# Altium footprint library PTS636SM25SMTRLFS.PcbLib: 1 footprints
Each footprint in its own frame and in the unit in brackets; x right, y up, seen from the top. Pads: shape width x height; smd on the part's side, far side on the other; paste and mask are expansions set on the pad; w line width, h text height; cw(c..) or ccw(c..) is an arc to the next point about the centre after c.
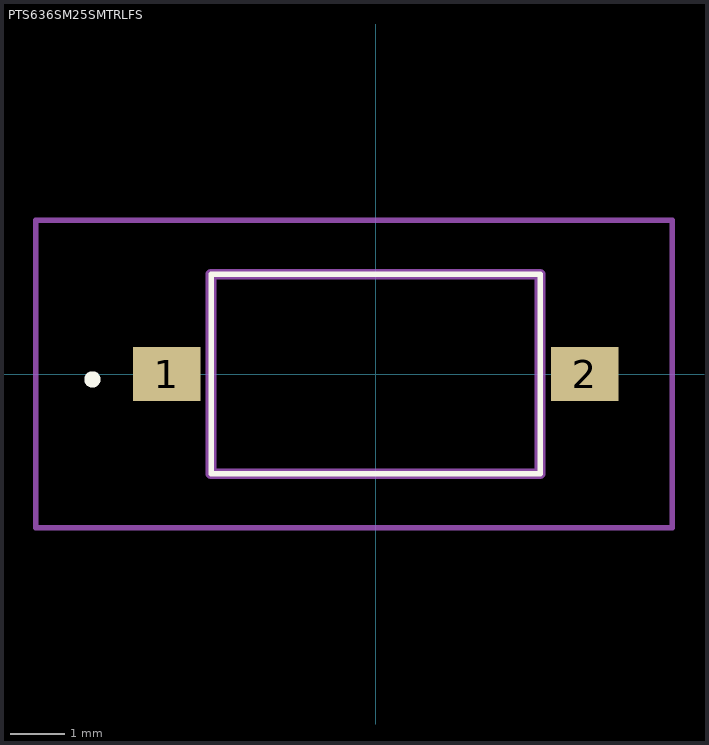
[diagram p0: the footprint, top view; thin cyan lines are the x and y axes]

## PTS636SM25SMTRLFS [mm]
pads (2):
  rect 1.25x1 smd: 1(-3.875,0) 2(3.875,0)
Top Overlay:
  lines w0.1: -3.05,-1.85 3.05,-1.85 3.05,1.85 -3.05,1.85 -3.05,-1.85
  lines w0.2: -5.3,-0.1 -5.3,-0.1 ; -5.3,-0.1 ccw(c-5.25,-0.1) -5.2,-0.1 ; -5.3,-0.1 cw(c-5.25,-0.1) -5.2,-0.1 ; -5.3,-0.1 -5.3,-0.1 ; -5.3,-0.1 ccw(c-5.25,-0.1) -5.2,-0.1 ; -5.2,-0.1 -5.2,-0.1
Mechanical 15:
  lines w0.2: -3.05,-1.85 3.05,-1.85 3.05,1.85 -3.05,1.85 -3.05,-1.85
Mechanical 20:
  lines w0.1: -6.3,-2.85 5.5,-2.85 5.5,2.85 -6.3,2.85 -6.3,-2.85